# Altium schematic symbol library 1047.SchLib: 1 symbol
Pins are listed as number, name and electrical type; pins without a type are passive.

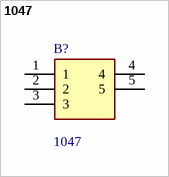
[diagram p0: symbol 1047]

## 1047
designator B?
KEYSTONE - 1047 - BATTERY HOLDER, 18650 LI-ION, 2CELL, PCB; Manufacturer_Name: Keystone Electronics; Geometry.Height: 14.85mm; Mouser Part Number: 534-1047; Mouser Price/Stock: https://www.mouser.co.uk/ProductDetail/Keystone-Electronics/1047?qs=up89fPMRNqBQruBm7zqCRQ%3D%3D; Manufacturer_Part_Number: 1047; Datasheet Link: https://www.keyelco.com/product.cfm/product_id/14061
footprint 1047
pins: 1, 2, 3, 4, 5